# Altium footprint library Pin Grid Array Package (PGA).PcbLib: 60 footprints (part 3 of 6)
Each footprint in its own frame and in the unit in brackets; x right, y up, seen from the top. Pads: shape width x height; smd on the part's side, far side on the other; paste and mask are expansions set on the pad; w line width, h text height; cw(c..) or ccw(c..) is an arc to the next point about the centre after c.
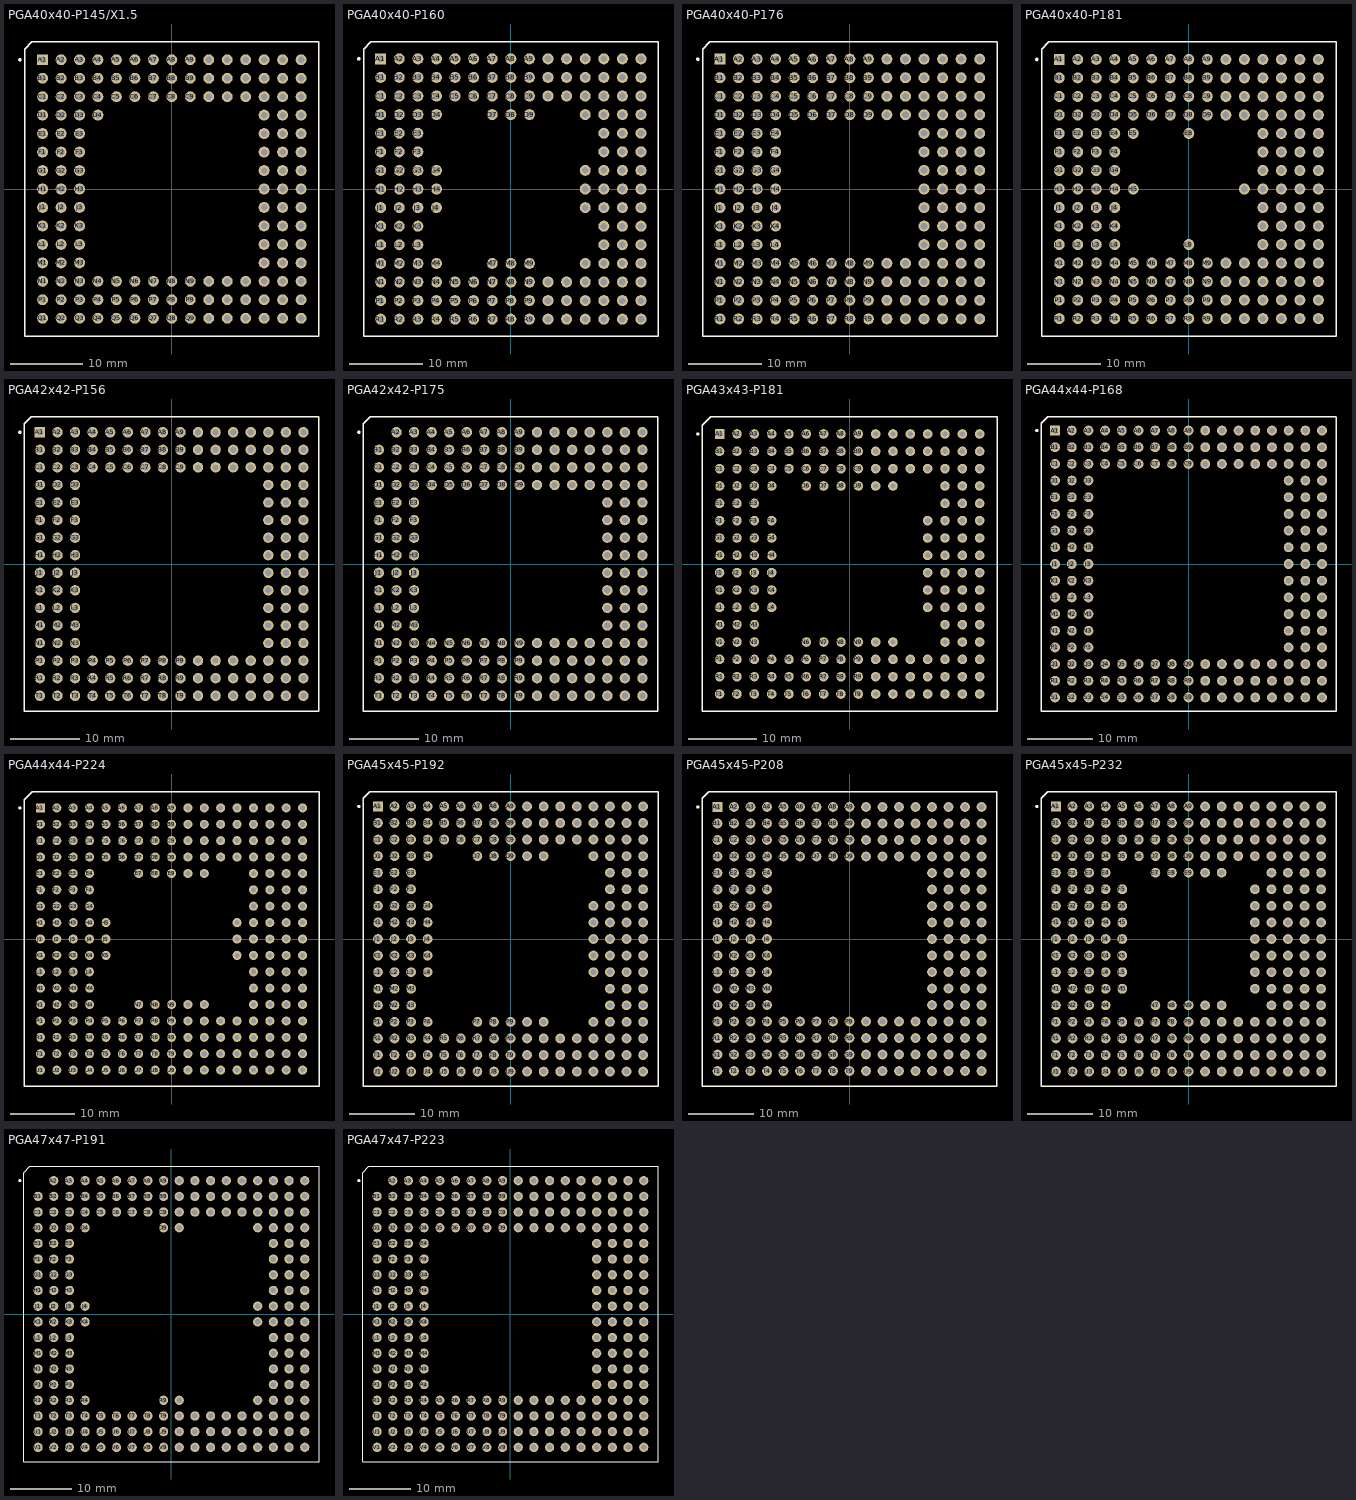
[diagram p2: the footprints below, top view; thin cyan lines are the x and y axes]

## PGA40x40-P145/X1.5 [mm] "PGA; 145 Leads; Body 39.9 x 39.9 mm; Plain Grid"
height 4.95
pads (145):
  rect 1.5x1.5 hole 0.9: A1(-17.78,17.78)
  round 1.5 hole 0.9: A2(-15.24,17.78) A3(-12.7,17.78) A4(-10.16,17.78) A5(-7.62,17.78) A6(-5.08,17.78) A7(-2.54,17.78) A8(0,17.78) A9(2.54,17.78) A10(5.08,17.78) A11(7.62,17.78) A12(10.16,17.78) A13(12.7,17.78) A14(15.24,17.78) A15(17.78,17.78) B1(-17.78,15.24) B2(-15.24,15.24) B3(-12.7,15.24) B4(-10.16,15.24) B5(-7.62,15.24) B6(-5.08,15.24) B7(-2.54,15.24) B8(0,15.24) B9(2.54,15.24) B10(5.08,15.24) B11(7.62,15.24) B12(10.16,15.24) B13(12.7,15.24) B14(15.24,15.24) B15(17.78,15.24) C1(-17.78,12.7) C2(-15.24,12.7) C3(-12.7,12.7) C4(-10.16,12.7) C5(-7.62,12.7) C6(-5.08,12.7) C7(-2.54,12.7) C8(0,12.7) C9(2.54,12.7) C10(5.08,12.7) C11(7.62,12.7) C12(10.16,12.7) C13(12.7,12.7) C14(15.24,12.7) C15(17.78,12.7) D1(-17.78,10.16) D2(-15.24,10.16) D3(-12.7,10.16) D4(-10.16,10.16) D13(12.7,10.16) D14(15.24,10.16) D15(17.78,10.16) E1(-17.78,7.62) E2(-15.24,7.62) E3(-12.7,7.62) E13(12.7,7.62) E14(15.24,7.62) E15(17.78,7.62) F1(-17.78,5.08) F2(-15.24,5.08) F3(-12.7,5.08) F13(12.7,5.08) F14(15.24,5.08) F15(17.78,5.08) G1(-17.78,2.54) G2(-15.24,2.54) G3(-12.7,2.54) G13(12.7,2.54) G14(15.24,2.54) G15(17.78,2.54) H1(-17.78,0) H2(-15.24,0) H3(-12.7,0) H13(12.7,0) H14(15.24,0) H15(17.78,0) J1(-17.78,-2.54) J2(-15.24,-2.54) J3(-12.7,-2.54) J13(12.7,-2.54) J14(15.24,-2.54) J15(17.78,-2.54) K1(-17.78,-5.08) K2(-15.24,-5.08) K3(-12.7,-5.08) K13(12.7,-5.08) K14(15.24,-5.08) K15(17.78,-5.08) L1(-17.78,-7.62) L2(-15.24,-7.62) L3(-12.7,-7.62) L13(12.7,-7.62) L14(15.24,-7.62) L15(17.78,-7.62) M1(-17.78,-10.16) M2(-15.24,-10.16) M3(-12.7,-10.16) M13(12.7,-10.16) M14(15.24,-10.16) M15(17.78,-10.16) N1(-17.78,-12.7) N2(-15.24,-12.7) N3(-12.7,-12.7) N4(-10.16,-12.7) N5(-7.62,-12.7) N6(-5.08,-12.7) N7(-2.54,-12.7) N8(0,-12.7) N9(2.54,-12.7) N10(5.08,-12.7) N11(7.62,-12.7) N12(10.16,-12.7) N13(12.7,-12.7) N14(15.24,-12.7) N15(17.78,-12.7) P1(-17.78,-15.24) P2(-15.24,-15.24) P3(-12.7,-15.24) P4(-10.16,-15.24) P5(-7.62,-15.24) P6(-5.08,-15.24) P7(-2.54,-15.24) P8(0,-15.24) P9(2.54,-15.24) P10(5.08,-15.24) P11(7.62,-15.24) P12(10.16,-15.24) P13(12.7,-15.24) P14(15.24,-15.24) P15(17.78,-15.24) Q1(-17.78,-17.78) Q2(-15.24,-17.78) Q3(-12.7,-17.78) Q4(-10.16,-17.78) Q5(-7.62,-17.78) Q6(-5.08,-17.78) Q7(-2.54,-17.78) Q8(0,-17.78) Q9(2.54,-17.78) Q10(5.08,-17.78) Q11(7.62,-17.78) Q12(10.16,-17.78) Q13(12.7,-17.78) Q14(15.24,-17.78) Q15(17.78,-17.78)
Top Overlay:
  circle w0.25: c-20.9,17.78 r0.125
  lines w0.2: -20.25,-20.25 -20.25,19.25 -19.25,20.25 20.25,20.25 20.25,-20.25 -20.25,-20.25

## PGA40x40-P160 [mm] "PGA; 160 Leads; Body 40 x 40 mm; Plain Grid"
height 5.21
pads (160):
  rect 1.5x1.5 hole 0.9: A1(-17.78,17.78)
  round 1.5 hole 0.9: A2(-15.24,17.78) A3(-12.7,17.78) A4(-10.16,17.78) A5(-7.62,17.78) A6(-5.08,17.78) A7(-2.54,17.78) A8(0,17.78) A9(2.54,17.78) A10(5.08,17.78) A11(7.62,17.78) A12(10.16,17.78) A13(12.7,17.78) A14(15.24,17.78) A15(17.78,17.78) B1(-17.78,15.24) B2(-15.24,15.24) B3(-12.7,15.24) B4(-10.16,15.24) B5(-7.62,15.24) B6(-5.08,15.24) B7(-2.54,15.24) B8(0,15.24) B9(2.54,15.24) B10(5.08,15.24) B11(7.62,15.24) B12(10.16,15.24) B13(12.7,15.24) B14(15.24,15.24) B15(17.78,15.24) C1(-17.78,12.7) C2(-15.24,12.7) C3(-12.7,12.7) C4(-10.16,12.7) C5(-7.62,12.7) C6(-5.08,12.7) C7(-2.54,12.7) C8(0,12.7) C9(2.54,12.7) C10(5.08,12.7) C11(7.62,12.7) C12(10.16,12.7) C13(12.7,12.7) C14(15.24,12.7) C15(17.78,12.7) D1(-17.78,10.16) D2(-15.24,10.16) D3(-12.7,10.16) D4(-10.16,10.16) D7(-2.54,10.16) D8(0,10.16) D9(2.54,10.16) D12(10.16,10.16) D13(12.7,10.16) D14(15.24,10.16) D15(17.78,10.16) E1(-17.78,7.62) E2(-15.24,7.62) E3(-12.7,7.62) E13(12.7,7.62) E14(15.24,7.62) E15(17.78,7.62) F1(-17.78,5.08) F2(-15.24,5.08) F3(-12.7,5.08) F13(12.7,5.08) F14(15.24,5.08) F15(17.78,5.08) G1(-17.78,2.54) G2(-15.24,2.54) G3(-12.7,2.54) G4(-10.16,2.54) G12(10.16,2.54) G13(12.7,2.54) G14(15.24,2.54) G15(17.78,2.54) H1(-17.78,0) H2(-15.24,0) H3(-12.7,0) H4(-10.16,0) H12(10.16,0) H13(12.7,0) H14(15.24,0) H15(17.78,0) J1(-17.78,-2.54) J2(-15.24,-2.54) J3(-12.7,-2.54) J4(-10.16,-2.54) J12(10.16,-2.54) J13(12.7,-2.54) J14(15.24,-2.54) J15(17.78,-2.54) K1(-17.78,-5.08) K2(-15.24,-5.08) K3(-12.7,-5.08) K13(12.7,-5.08) K14(15.24,-5.08) K15(17.78,-5.08) L1(-17.78,-7.62) L2(-15.24,-7.62) L3(-12.7,-7.62) L13(12.7,-7.62) L14(15.24,-7.62) L15(17.78,-7.62) M1(-17.78,-10.16) M2(-15.24,-10.16) M3(-12.7,-10.16) M4(-10.16,-10.16) M7(-2.54,-10.16) M8(0,-10.16) M9(2.54,-10.16) M12(10.16,-10.16) M13(12.7,-10.16) M14(15.24,-10.16) M15(17.78,-10.16) N1(-17.78,-12.7) N2(-15.24,-12.7) N3(-12.7,-12.7) N4(-10.16,-12.7) N5(-7.62,-12.7) N6(-5.08,-12.7) N7(-2.54,-12.7) N8(0,-12.7) N9(2.54,-12.7) N10(5.08,-12.7) N11(7.62,-12.7) N12(10.16,-12.7) N13(12.7,-12.7) N14(15.24,-12.7) N15(17.78,-12.7) P1(-17.78,-15.24) P2(-15.24,-15.24) P3(-12.7,-15.24) P4(-10.16,-15.24) P5(-7.62,-15.24) P6(-5.08,-15.24) P7(-2.54,-15.24) P8(0,-15.24) P9(2.54,-15.24) P10(5.08,-15.24) P11(7.62,-15.24) P12(10.16,-15.24) P13(12.7,-15.24) P14(15.24,-15.24) P15(17.78,-15.24) R1(-17.78,-17.78) R2(-15.24,-17.78) R3(-12.7,-17.78) R4(-10.16,-17.78) R5(-7.62,-17.78) R6(-5.08,-17.78) R7(-2.54,-17.78) R8(0,-17.78) R9(2.54,-17.78) R10(5.08,-17.78) R11(7.62,-17.78) R12(10.16,-17.78) R13(12.7,-17.78) R14(15.24,-17.78) R15(17.78,-17.78)
Top Overlay:
  circle w0.25: c-20.75,17.78 r0.125
  lines w0.2: -20.1,-20.1 20.1,-20.1 20.1,20.1 -19.1,20.1 -20.1,19.1 -20.1,-20.1

## PGA40x40-P176 [mm] "175-Pin Ceramic Pin Grid Array (CPGA)"
height 4.37
pads (176):
  rect 1.5x1.5 hole 0.9: A1(-17.78,17.78)
  round 1.5 hole 0.9: A2(-15.24,17.78) A3(-12.7,17.78) A4(-10.16,17.78) A5(-7.62,17.78) A6(-5.08,17.78) A7(-2.54,17.78) A8(0,17.78) A9(2.54,17.78) A10(5.08,17.78) A11(7.62,17.78) A12(10.16,17.78) A13(12.7,17.78) A14(15.24,17.78) A15(17.78,17.78) B1(-17.78,15.24) B2(-15.24,15.24) B3(-12.7,15.24) B4(-10.16,15.24) B5(-7.62,15.24) B6(-5.08,15.24) B7(-2.54,15.24) B8(0,15.24) B9(2.54,15.24) B10(5.08,15.24) B11(7.62,15.24) B12(10.16,15.24) B13(12.7,15.24) B14(15.24,15.24) B15(17.78,15.24) C1(-17.78,12.7) C2(-15.24,12.7) C3(-12.7,12.7) C4(-10.16,12.7) C5(-7.62,12.7) C6(-5.08,12.7) C7(-2.54,12.7) C8(0,12.7) C9(2.54,12.7) C10(5.08,12.7) C11(7.62,12.7) C12(10.16,12.7) C13(12.7,12.7) C14(15.24,12.7) C15(17.78,12.7) D1(-17.78,10.16) D2(-15.24,10.16) D3(-12.7,10.16) D4(-10.16,10.16) D5(-7.62,10.16) D6(-5.08,10.16) D7(-2.54,10.16) D8(0,10.16) D9(2.54,10.16) D10(5.08,10.16) D11(7.62,10.16) D12(10.16,10.16) D13(12.7,10.16) D14(15.24,10.16) D15(17.78,10.16) E1(-17.78,7.62) E2(-15.24,7.62) E3(-12.7,7.62) E4(-10.16,7.62) E12(10.16,7.62) E13(12.7,7.62) E14(15.24,7.62) E15(17.78,7.62) F1(-17.78,5.08) F2(-15.24,5.08) F3(-12.7,5.08) F4(-10.16,5.08) F12(10.16,5.08) F13(12.7,5.08) F14(15.24,5.08) F15(17.78,5.08) G1(-17.78,2.54) G2(-15.24,2.54) G3(-12.7,2.54) G4(-10.16,2.54) G12(10.16,2.54) G13(12.7,2.54) G14(15.24,2.54) G15(17.78,2.54) H1(-17.78,0) H2(-15.24,0) H3(-12.7,0) H4(-10.16,0) H12(10.16,0) H13(12.7,0) H14(15.24,0) H15(17.78,0) J1(-17.78,-2.54) J2(-15.24,-2.54) J3(-12.7,-2.54) J4(-10.16,-2.54) J12(10.16,-2.54) J13(12.7,-2.54) J14(15.24,-2.54) J15(17.78,-2.54) K1(-17.78,-5.08) K2(-15.24,-5.08) K3(-12.7,-5.08) K4(-10.16,-5.08) K12(10.16,-5.08) K13(12.7,-5.08) K14(15.24,-5.08) K15(17.78,-5.08) L1(-17.78,-7.62) L2(-15.24,-7.62) L3(-12.7,-7.62) L4(-10.16,-7.62) L12(10.16,-7.62) L13(12.7,-7.62) L14(15.24,-7.62) L15(17.78,-7.62) M1(-17.78,-10.16) M2(-15.24,-10.16) M3(-12.7,-10.16) M4(-10.16,-10.16) M5(-7.62,-10.16) M6(-5.08,-10.16) M7(-2.54,-10.16) M8(0,-10.16) M9(2.54,-10.16) M10(5.08,-10.16) M11(7.62,-10.16) M12(10.16,-10.16) M13(12.7,-10.16) M14(15.24,-10.16) M15(17.78,-10.16) N1(-17.78,-12.7) N2(-15.24,-12.7) N3(-12.7,-12.7) N4(-10.16,-12.7) N5(-7.62,-12.7) N6(-5.08,-12.7) N7(-2.54,-12.7) N8(0,-12.7) N9(2.54,-12.7) N10(5.08,-12.7) N11(7.62,-12.7) N12(10.16,-12.7) N13(12.7,-12.7) N14(15.24,-12.7) N15(17.78,-12.7) P1(-17.78,-15.24) P2(-15.24,-15.24) P3(-12.7,-15.24) P4(-10.16,-15.24) P5(-7.62,-15.24) P6(-5.08,-15.24) P7(-2.54,-15.24) P8(0,-15.24) P9(2.54,-15.24) P10(5.08,-15.24) P11(7.62,-15.24) P12(10.16,-15.24) P13(12.7,-15.24) P14(15.24,-15.24) P15(17.78,-15.24) R1(-17.78,-17.78) R2(-15.24,-17.78) R3(-12.7,-17.78) R4(-10.16,-17.78) R5(-7.62,-17.78) R6(-5.08,-17.78) R7(-2.54,-17.78) R8(0,-17.78) R9(2.54,-17.78) R10(5.08,-17.78) R11(7.62,-17.78) R12(10.16,-17.78) R13(12.7,-17.78) R14(15.24,-17.78) R15(17.78,-17.78)
Top Overlay:
  circle w0.25: c-20.8,17.78 r0.125
  lines w0.2: -20.15,-20.15 20.15,-20.15 20.15,20.15 -19.15,20.15 -20.15,19.15 -20.15,-20.15

## PGA40x40-P181 [mm] "PGA; 181 Leads; Body 39 x 39 mm; Plain Grid"
height 6.22
pads (181):
  rect 1.5x1.5 hole 0.9: A1(-17.78,17.78)
  round 1.5 hole 0.9: A2(-15.24,17.78) A3(-12.7,17.78) A4(-10.16,17.78) A5(-7.62,17.78) A6(-5.08,17.78) A7(-2.54,17.78) A8(0,17.78) A9(2.54,17.78) A10(5.08,17.78) A11(7.62,17.78) A12(10.16,17.78) A13(12.7,17.78) A14(15.24,17.78) A15(17.78,17.78) B1(-17.78,15.24) B2(-15.24,15.24) B3(-12.7,15.24) B4(-10.16,15.24) B5(-7.62,15.24) B6(-5.08,15.24) B7(-2.54,15.24) B8(0,15.24) B9(2.54,15.24) B10(5.08,15.24) B11(7.62,15.24) B12(10.16,15.24) B13(12.7,15.24) B14(15.24,15.24) B15(17.78,15.24) C1(-17.78,12.7) C2(-15.24,12.7) C3(-12.7,12.7) C4(-10.16,12.7) C5(-7.62,12.7) C6(-5.08,12.7) C7(-2.54,12.7) C8(0,12.7) C9(2.54,12.7) C10(5.08,12.7) C11(7.62,12.7) C12(10.16,12.7) C13(12.7,12.7) C14(15.24,12.7) C15(17.78,12.7) D1(-17.78,10.16) D2(-15.24,10.16) D3(-12.7,10.16) D4(-10.16,10.16) D5(-7.62,10.16) D6(-5.08,10.16) D7(-2.54,10.16) D8(0,10.16) D9(2.54,10.16) D10(5.08,10.16) D11(7.62,10.16) D12(10.16,10.16) D13(12.7,10.16) D14(15.24,10.16) D15(17.78,10.16) E1(-17.78,7.62) E2(-15.24,7.62) E3(-12.7,7.62) E4(-10.16,7.62) E5(-7.62,7.62) E8(0,7.62) E12(10.16,7.62) E13(12.7,7.62) E14(15.24,7.62) E15(17.78,7.62) F1(-17.78,5.08) F2(-15.24,5.08) F3(-12.7,5.08) F4(-10.16,5.08) F12(10.16,5.08) F13(12.7,5.08) F14(15.24,5.08) F15(17.78,5.08) G1(-17.78,2.54) G2(-15.24,2.54) G3(-12.7,2.54) G4(-10.16,2.54) G12(10.16,2.54) G13(12.7,2.54) G14(15.24,2.54) G15(17.78,2.54) H1(-17.78,0) H2(-15.24,0) H3(-12.7,0) H4(-10.16,0) H5(-7.62,0) H11(7.62,0) H12(10.16,0) H13(12.7,0) H14(15.24,0) H15(17.78,0) J1(-17.78,-2.54) J2(-15.24,-2.54) J3(-12.7,-2.54) J4(-10.16,-2.54) J12(10.16,-2.54) J13(12.7,-2.54) J14(15.24,-2.54) J15(17.78,-2.54) K1(-17.78,-5.08) K2(-15.24,-5.08) K3(-12.7,-5.08) K4(-10.16,-5.08) K12(10.16,-5.08) K13(12.7,-5.08) K14(15.24,-5.08) K15(17.78,-5.08) L1(-17.78,-7.62) L2(-15.24,-7.62) L3(-12.7,-7.62) L4(-10.16,-7.62) L8(0,-7.62) L12(10.16,-7.62) L13(12.7,-7.62) L14(15.24,-7.62) L15(17.78,-7.62) M1(-17.78,-10.16) M2(-15.24,-10.16) M3(-12.7,-10.16) M4(-10.16,-10.16) M5(-7.62,-10.16) M6(-5.08,-10.16) M7(-2.54,-10.16) M8(0,-10.16) M9(2.54,-10.16) M10(5.08,-10.16) M11(7.62,-10.16) M12(10.16,-10.16) M13(12.7,-10.16) M14(15.24,-10.16) M15(17.78,-10.16) N1(-17.78,-12.7) N2(-15.24,-12.7) N3(-12.7,-12.7) N4(-10.16,-12.7) N5(-7.62,-12.7) N6(-5.08,-12.7) N7(-2.54,-12.7) N8(0,-12.7) N9(2.54,-12.7) N10(5.08,-12.7) N11(7.62,-12.7) N12(10.16,-12.7) N13(12.7,-12.7) N14(15.24,-12.7) N15(17.78,-12.7) P1(-17.78,-15.24) P2(-15.24,-15.24) P3(-12.7,-15.24) P4(-10.16,-15.24) P5(-7.62,-15.24) P6(-5.08,-15.24) P7(-2.54,-15.24) P8(0,-15.24) P9(2.54,-15.24) P10(5.08,-15.24) P11(7.62,-15.24) P12(10.16,-15.24) P13(12.7,-15.24) P14(15.24,-15.24) P15(17.78,-15.24) R1(-17.78,-17.78) R2(-15.24,-17.78) R3(-12.7,-17.78) R4(-10.16,-17.78) R5(-7.62,-17.78) R6(-5.08,-17.78) R7(-2.54,-17.78) R8(0,-17.78) R9(2.54,-17.78) R10(5.08,-17.78) R11(7.62,-17.78) R12(10.16,-17.78) R13(12.7,-17.78) R14(15.24,-17.78) R15(17.78,-17.78)
Top Overlay:
  circle w0.25: c-20.85,17.78 r0.125
  lines w0.2: -20.2,-20.2 -20.2,19.2 -19.2,20.2 20.2,20.2 20.2,-20.2 -20.2,-20.2

## PGA42x42-P156 [mm] "156-Pin Ceramic Pin Grid Array (PG156)"
height 3.94
pads (156):
  rect 1.5x1.5 hole 0.9: A1(-19.05,19.05)
  round 1.5 hole 0.9: A2(-16.51,19.05) A3(-13.97,19.05) A4(-11.43,19.05) A5(-8.89,19.05) A6(-6.35,19.05) A7(-3.81,19.05) A8(-1.27,19.05) A9(1.27,19.05) A10(3.81,19.05) A11(6.35,19.05) A12(8.89,19.05) A13(11.43,19.05) A14(13.97,19.05) A15(16.51,19.05) A16(19.05,19.05) B1(-19.05,16.51) B2(-16.51,16.51) B3(-13.97,16.51) B4(-11.43,16.51) B5(-8.89,16.51) B6(-6.35,16.51) B7(-3.81,16.51) B8(-1.27,16.51) B9(1.27,16.51) B10(3.81,16.51) B11(6.35,16.51) B12(8.89,16.51) B13(11.43,16.51) B14(13.97,16.51) B15(16.51,16.51) B16(19.05,16.51) C1(-19.05,13.97) C2(-16.51,13.97) C3(-13.97,13.97) C4(-11.43,13.97) C5(-8.89,13.97) C6(-6.35,13.97) C7(-3.81,13.97) C8(-1.27,13.97) C9(1.27,13.97) C10(3.81,13.97) C11(6.35,13.97) C12(8.89,13.97) C13(11.43,13.97) C14(13.97,13.97) C15(16.51,13.97) C16(19.05,13.97) D1(-19.05,11.43) D2(-16.51,11.43) D3(-13.97,11.43) D14(13.97,11.43) D15(16.51,11.43) D16(19.05,11.43) E1(-19.05,8.89) E2(-16.51,8.89) E3(-13.97,8.89) E14(13.97,8.89) E15(16.51,8.89) E16(19.05,8.89) F1(-19.05,6.35) F2(-16.51,6.35) F3(-13.97,6.35) F14(13.97,6.35) F15(16.51,6.35) F16(19.05,6.35) G1(-19.05,3.81) G2(-16.51,3.81) G3(-13.97,3.81) G14(13.97,3.81) G15(16.51,3.81) G16(19.05,3.81) H1(-19.05,1.27) H2(-16.51,1.27) H3(-13.97,1.27) H14(13.97,1.27) H15(16.51,1.27) H16(19.05,1.27) J1(-19.05,-1.27) J2(-16.51,-1.27) J3(-13.97,-1.27) J14(13.97,-1.27) J15(16.51,-1.27) J16(19.05,-1.27) K1(-19.05,-3.81) K2(-16.51,-3.81) K3(-13.97,-3.81) K14(13.97,-3.81) K15(16.51,-3.81) K16(19.05,-3.81) L1(-19.05,-6.35) L2(-16.51,-6.35) L3(-13.97,-6.35) L14(13.97,-6.35) L15(16.51,-6.35) L16(19.05,-6.35) M1(-19.05,-8.89) M2(-16.51,-8.89) M3(-13.97,-8.89) M14(13.97,-8.89) M15(16.51,-8.89) M16(19.05,-8.89) N1(-19.05,-11.43) N2(-16.51,-11.43) N3(-13.97,-11.43) N14(13.97,-11.43) N15(16.51,-11.43) N16(19.05,-11.43) P1(-19.05,-13.97) P2(-16.51,-13.97) P3(-13.97,-13.97) P4(-11.43,-13.97) P5(-8.89,-13.97) P6(-6.35,-13.97) P7(-3.81,-13.97) P8(-1.27,-13.97) P9(1.27,-13.97) P10(3.81,-13.97) P11(6.35,-13.97) P12(8.89,-13.97) P13(11.43,-13.97) P14(13.97,-13.97) P15(16.51,-13.97) P16(19.05,-13.97) R1(-19.05,-16.51) R2(-16.51,-16.51) R3(-13.97,-16.51) R4(-11.43,-16.51) R5(-8.89,-16.51) R6(-6.35,-16.51) R7(-3.81,-16.51) R8(-1.27,-16.51) R9(1.27,-16.51) R10(3.81,-16.51) R11(6.35,-16.51) R12(8.89,-16.51) R13(11.43,-16.51) R14(13.97,-16.51) R15(16.51,-16.51) R16(19.05,-16.51) T1(-19.05,-19.05) T2(-16.51,-19.05) T3(-13.97,-19.05) T4(-11.43,-19.05) T5(-8.89,-19.05) T6(-6.35,-19.05) T7(-3.81,-19.05) T8(-1.27,-19.05) T9(1.27,-19.05) T10(3.81,-19.05) T11(6.35,-19.05) T12(8.89,-19.05) T13(11.43,-19.05) T14(13.97,-19.05) T15(16.51,-19.05) T16(19.05,-19.05)
Top Overlay:
  circle w0.25: c-21.95,19.05 r0.125
  lines w0.2: -21.3,-21.3 -21.3,20.3 -20.3,21.3 21.3,21.3 21.3,-21.3 -21.3,-21.3

## PGA42x42-P175 [mm] "175-Pin Ceramic PGA (PG175)"
height 5.21
pads (175):
  round 1.5 hole 0.9: A2(-16.51,19.05) A3(-13.97,19.05) A4(-11.43,19.05) A5(-8.89,19.05) A6(-6.35,19.05) A7(-3.81,19.05) A8(-1.27,19.05) A9(1.27,19.05) A10(3.81,19.05) A11(6.35,19.05) A12(8.89,19.05) A13(11.43,19.05) A14(13.97,19.05) A15(16.51,19.05) A16(19.05,19.05) B1(-19.05,16.51) B2(-16.51,16.51) B3(-13.97,16.51) B4(-11.43,16.51) B5(-8.89,16.51) B6(-6.35,16.51) B7(-3.81,16.51) B8(-1.27,16.51) B9(1.27,16.51) B10(3.81,16.51) B11(6.35,16.51) B12(8.89,16.51) B13(11.43,16.51) B14(13.97,16.51) B15(16.51,16.51) B16(19.05,16.51) C1(-19.05,13.97) C2(-16.51,13.97) C3(-13.97,13.97) C4(-11.43,13.97) C5(-8.89,13.97) C6(-6.35,13.97) C7(-3.81,13.97) C8(-1.27,13.97) C9(1.27,13.97) C10(3.81,13.97) C11(6.35,13.97) C12(8.89,13.97) C13(11.43,13.97) C14(13.97,13.97) C15(16.51,13.97) C16(19.05,13.97) D1(-19.05,11.43) D2(-16.51,11.43) D3(-13.97,11.43) D4(-11.43,11.43) D5(-8.89,11.43) D6(-6.35,11.43) D7(-3.81,11.43) D8(-1.27,11.43) D9(1.27,11.43) D10(3.81,11.43) D11(6.35,11.43) D12(8.89,11.43) D13(11.43,11.43) D14(13.97,11.43) D15(16.51,11.43) D16(19.05,11.43) E1(-19.05,8.89) E2(-16.51,8.89) E3(-13.97,8.89) E14(13.97,8.89) E15(16.51,8.89) E16(19.05,8.89) F1(-19.05,6.35) F2(-16.51,6.35) F3(-13.97,6.35) F14(13.97,6.35) F15(16.51,6.35) F16(19.05,6.35) G1(-19.05,3.81) G2(-16.51,3.81) G3(-13.97,3.81) G14(13.97,3.81) G15(16.51,3.81) G16(19.05,3.81) H1(-19.05,1.27) H2(-16.51,1.27) H3(-13.97,1.27) H14(13.97,1.27) H15(16.51,1.27) H16(19.05,1.27) J1(-19.05,-1.27) J2(-16.51,-1.27) J3(-13.97,-1.27) J14(13.97,-1.27) J15(16.51,-1.27) J16(19.05,-1.27) K1(-19.05,-3.81) K2(-16.51,-3.81) K3(-13.97,-3.81) K14(13.97,-3.81) K15(16.51,-3.81) K16(19.05,-3.81) L1(-19.05,-6.35) L2(-16.51,-6.35) L3(-13.97,-6.35) L14(13.97,-6.35) L15(16.51,-6.35) L16(19.05,-6.35) M1(-19.05,-8.89) M2(-16.51,-8.89) M3(-13.97,-8.89) M14(13.97,-8.89) M15(16.51,-8.89) M16(19.05,-8.89) N1(-19.05,-11.43) N2(-16.51,-11.43) N3(-13.97,-11.43) N4(-11.43,-11.43) N5(-8.89,-11.43) N6(-6.35,-11.43) N7(-3.81,-11.43) N8(-1.27,-11.43) N9(1.27,-11.43) N10(3.81,-11.43) N11(6.35,-11.43) N12(8.89,-11.43) N13(11.43,-11.43) N14(13.97,-11.43) N15(16.51,-11.43) N16(19.05,-11.43) P1(-19.05,-13.97) P2(-16.51,-13.97) P3(-13.97,-13.97) P4(-11.43,-13.97) P5(-8.89,-13.97) P6(-6.35,-13.97) P7(-3.81,-13.97) P8(-1.27,-13.97) P9(1.27,-13.97) P10(3.81,-13.97) P11(6.35,-13.97) P12(8.89,-13.97) P13(11.43,-13.97) P14(13.97,-13.97) P15(16.51,-13.97) P16(19.05,-13.97) R1(-19.05,-16.51) R2(-16.51,-16.51) R3(-13.97,-16.51) R4(-11.43,-16.51) R5(-8.89,-16.51) R6(-6.35,-16.51) R7(-3.81,-16.51) R8(-1.27,-16.51) R9(1.27,-16.51) R10(3.81,-16.51) R11(6.35,-16.51) R12(8.89,-16.51) R13(11.43,-16.51) R14(13.97,-16.51) R15(16.51,-16.51) R16(19.05,-16.51) T1(-19.05,-19.05) T2(-16.51,-19.05) T3(-13.97,-19.05) T4(-11.43,-19.05) T5(-8.89,-19.05) T6(-6.35,-19.05) T7(-3.81,-19.05) T8(-1.27,-19.05) T9(1.27,-19.05) T10(3.81,-19.05) T11(6.35,-19.05) T12(8.89,-19.05) T13(11.43,-19.05) T14(13.97,-19.05) T15(16.51,-19.05) T16(19.05,-19.05)
Top Overlay:
  circle w0.25: c-21.95,19.05 r0.125
  lines w0.2: -21.3,-21.3 21.3,-21.3 21.3,21.3 -20.3,21.3 -21.3,20.3 -21.3,-21.3

## PGA43x43-P181 [mm] "PGA; 181 Leads; Body 42 x 42 mm; Plain Grid"
height 3.84
pads (181):
  rect 1.4x1.4 hole 0.8: A1(-19.05,19.05)
  round 1.4 hole 0.8: A2(-16.51,19.05) A3(-13.97,19.05) A4(-11.43,19.05) A5(-8.89,19.05) A6(-6.35,19.05) A7(-3.81,19.05) A8(-1.27,19.05) A9(1.27,19.05) A10(3.81,19.05) A11(6.35,19.05) A12(8.89,19.05) A13(11.43,19.05) A14(13.97,19.05) A15(16.51,19.05) A16(19.05,19.05) B1(-19.05,16.51) B2(-16.51,16.51) B3(-13.97,16.51) B4(-11.43,16.51) B5(-8.89,16.51) B6(-6.35,16.51) B7(-3.81,16.51) B8(-1.27,16.51) B9(1.27,16.51) B10(3.81,16.51) B11(6.35,16.51) B12(8.89,16.51) B13(11.43,16.51) B14(13.97,16.51) B15(16.51,16.51) B16(19.05,16.51) C1(-19.05,13.97) C2(-16.51,13.97) C3(-13.97,13.97) C4(-11.43,13.97) C5(-8.89,13.97) C6(-6.35,13.97) C7(-3.81,13.97) C8(-1.27,13.97) C9(1.27,13.97) C10(3.81,13.97) C11(6.35,13.97) C12(8.89,13.97) C13(11.43,13.97) C14(13.97,13.97) C15(16.51,13.97) C16(19.05,13.97) D1(-19.05,11.43) D2(-16.51,11.43) D3(-13.97,11.43) D4(-11.43,11.43) D6(-6.35,11.43) D7(-3.81,11.43) D8(-1.27,11.43) D9(1.27,11.43) D10(3.81,11.43) D11(6.35,11.43) D14(13.97,11.43) D15(16.51,11.43) D16(19.05,11.43) E1(-19.05,8.89) E2(-16.51,8.89) E3(-13.97,8.89) E14(13.97,8.89) E15(16.51,8.89) E16(19.05,8.89) F1(-19.05,6.35) F2(-16.51,6.35) F3(-13.97,6.35) F4(-11.43,6.35) F13(11.43,6.35) F14(13.97,6.35) F15(16.51,6.35) F16(19.05,6.35) G1(-19.05,3.81) G2(-16.51,3.81) G3(-13.97,3.81) G4(-11.43,3.81) G13(11.43,3.81) G14(13.97,3.81) G15(16.51,3.81) G16(19.05,3.81) H1(-19.05,1.27) H2(-16.51,1.27) H3(-13.97,1.27) H4(-11.43,1.27) H13(11.43,1.27) H14(13.97,1.27) H15(16.51,1.27) H16(19.05,1.27) J1(-19.05,-1.27) J2(-16.51,-1.27) J3(-13.97,-1.27) J4(-11.43,-1.27) J13(11.43,-1.27) J14(13.97,-1.27) J15(16.51,-1.27) J16(19.05,-1.27) K1(-19.05,-3.81) K2(-16.51,-3.81) K3(-13.97,-3.81) K4(-11.43,-3.81) K13(11.43,-3.81) K14(13.97,-3.81) K15(16.51,-3.81) K16(19.05,-3.81) L1(-19.05,-6.35) L2(-16.51,-6.35) L3(-13.97,-6.35) L4(-11.43,-6.35) L13(11.43,-6.35) L14(13.97,-6.35) L15(16.51,-6.35) L16(19.05,-6.35) M1(-19.05,-8.89) M2(-16.51,-8.89) M3(-13.97,-8.89) M14(13.97,-8.89) M15(16.51,-8.89) M16(19.05,-8.89) N1(-19.05,-11.43) N2(-16.51,-11.43) N3(-13.97,-11.43) N6(-6.35,-11.43) N7(-3.81,-11.43) N8(-1.27,-11.43) N9(1.27,-11.43) N10(3.81,-11.43) N11(6.35,-11.43) N14(13.97,-11.43) N15(16.51,-11.43) N16(19.05,-11.43) P1(-19.05,-13.97) P2(-16.51,-13.97) P3(-13.97,-13.97) P4(-11.43,-13.97) P5(-8.89,-13.97) P6(-6.35,-13.97) P7(-3.81,-13.97) P8(-1.27,-13.97) P9(1.27,-13.97) P10(3.81,-13.97) P11(6.35,-13.97) P12(8.89,-13.97) P13(11.43,-13.97) P14(13.97,-13.97) P15(16.51,-13.97) P16(19.05,-13.97) R1(-19.05,-16.51) R2(-16.51,-16.51) R3(-13.97,-16.51) R4(-11.43,-16.51) R5(-8.89,-16.51) R6(-6.35,-16.51) R7(-3.81,-16.51) R8(-1.27,-16.51) R9(1.27,-16.51) R10(3.81,-16.51) R11(6.35,-16.51) R12(8.89,-16.51) R13(11.43,-16.51) R14(13.97,-16.51) R15(16.51,-16.51) R16(19.05,-16.51) T1(-19.05,-19.05) T2(-16.51,-19.05) T3(-13.97,-19.05) T4(-11.43,-19.05) T5(-8.89,-19.05) T6(-6.35,-19.05) T7(-3.81,-19.05) T8(-1.27,-19.05) T9(1.27,-19.05) T10(3.81,-19.05) T11(6.35,-19.05) T12(8.89,-19.05) T13(11.43,-19.05) T14(13.97,-19.05) T15(16.51,-19.05) T16(19.05,-19.05)
Top Overlay:
  circle w0.25: c-22.24,19.05 r0.125
  lines w0.2: -21.59,-21.59 21.59,-21.59 21.59,21.59 -20.32,21.59 -21.59,20.32 -21.59,-21.59

## PGA44x44-P168 [mm] "PGA; 168 Leads; Body 44.5 x 44.5 mm; Plain Grid"
height 4.72
pads (168):
  rect 1.5x1.5 hole 0.9: A1(-20.32,20.32)
  round 1.5 hole 0.9: A2(-17.78,20.32) A3(-15.24,20.32) A4(-12.7,20.32) A5(-10.16,20.32) A6(-7.62,20.32) A7(-5.08,20.32) A8(-2.54,20.32) A9(0,20.32) A10(2.54,20.32) A11(5.08,20.32) A12(7.62,20.32) A13(10.16,20.32) A14(12.7,20.32) A15(15.24,20.32) A16(17.78,20.32) A17(20.32,20.32) B1(-20.32,17.78) B2(-17.78,17.78) B3(-15.24,17.78) B4(-12.7,17.78) B5(-10.16,17.78) B6(-7.62,17.78) B7(-5.08,17.78) B8(-2.54,17.78) B9(0,17.78) B10(2.54,17.78) B11(5.08,17.78) B12(7.62,17.78) B13(10.16,17.78) B14(12.7,17.78) B15(15.24,17.78) B16(17.78,17.78) B17(20.32,17.78) C1(-20.32,15.24) C2(-17.78,15.24) C3(-15.24,15.24) C4(-12.7,15.24) C5(-10.16,15.24) C6(-7.62,15.24) C7(-5.08,15.24) C8(-2.54,15.24) C9(0,15.24) C10(2.54,15.24) C11(5.08,15.24) C12(7.62,15.24) C13(10.16,15.24) C14(12.7,15.24) C15(15.24,15.24) C16(17.78,15.24) C17(20.32,15.24) D1(-20.32,12.7) D2(-17.78,12.7) D3(-15.24,12.7) D15(15.24,12.7) D16(17.78,12.7) D17(20.32,12.7) E1(-20.32,10.16) E2(-17.78,10.16) E3(-15.24,10.16) E15(15.24,10.16) E16(17.78,10.16) E17(20.32,10.16) F1(-20.32,7.62) F2(-17.78,7.62) F3(-15.24,7.62) F15(15.24,7.62) F16(17.78,7.62) F17(20.32,7.62) G1(-20.32,5.08) G2(-17.78,5.08) G3(-15.24,5.08) G15(15.24,5.08) G16(17.78,5.08) G17(20.32,5.08) H1(-20.32,2.54) H2(-17.78,2.54) H3(-15.24,2.54) H15(15.24,2.54) H16(17.78,2.54) H17(20.32,2.54) J1(-20.32,0) J2(-17.78,0) J3(-15.24,0) J15(15.24,0) J16(17.78,0) J17(20.32,0) K1(-20.32,-2.54) K2(-17.78,-2.54) K3(-15.24,-2.54) K15(15.24,-2.54) K16(17.78,-2.54) K17(20.32,-2.54) L1(-20.32,-5.08) L2(-17.78,-5.08) L3(-15.24,-5.08) L15(15.24,-5.08) L16(17.78,-5.08) L17(20.32,-5.08) M1(-20.32,-7.62) M2(-17.78,-7.62) M3(-15.24,-7.62) M15(15.24,-7.62) M16(17.78,-7.62) M17(20.32,-7.62) N1(-20.32,-10.16) N2(-17.78,-10.16) N3(-15.24,-10.16) N15(15.24,-10.16) N16(17.78,-10.16) N17(20.32,-10.16) P1(-20.32,-12.7) P2(-17.78,-12.7) P3(-15.24,-12.7) P15(15.24,-12.7) P16(17.78,-12.7) P17(20.32,-12.7) Q1(-20.32,-15.24) Q2(-17.78,-15.24) Q3(-15.24,-15.24) Q4(-12.7,-15.24) Q5(-10.16,-15.24) Q6(-7.62,-15.24) Q7(-5.08,-15.24) Q8(-2.54,-15.24) Q9(0,-15.24) Q10(2.54,-15.24) Q11(5.08,-15.24) Q12(7.62,-15.24) Q13(10.16,-15.24) Q14(12.7,-15.24) Q15(15.24,-15.24) Q16(17.78,-15.24) Q17(20.32,-15.24) R1(-20.32,-17.78) R2(-17.78,-17.78) R3(-15.24,-17.78) R4(-12.7,-17.78) R5(-10.16,-17.78) R6(-7.62,-17.78) R7(-5.08,-17.78) R8(-2.54,-17.78) R9(0,-17.78) R10(2.54,-17.78) R11(5.08,-17.78) R12(7.62,-17.78) R13(10.16,-17.78) R14(12.7,-17.78) R15(15.24,-17.78) R16(17.78,-17.78) R17(20.32,-17.78) S1(-20.32,-20.32) S2(-17.78,-20.32) S3(-15.24,-20.32) S4(-12.7,-20.32) S5(-10.16,-20.32) S6(-7.62,-20.32) S7(-5.08,-20.32) S8(-2.54,-20.32) S9(0,-20.32) S10(2.54,-20.32) S11(5.08,-20.32) S12(7.62,-20.32) S13(10.16,-20.32) S14(12.7,-20.32) S15(15.24,-20.32) S16(17.78,-20.32) S17(20.32,-20.32)
Top Overlay:
  circle w0.25: c-23.1,20.32 r0.125
  lines w0.2: -22.45,-22.45 -22.45,21.45 -21.45,22.45 22.45,22.45 22.45,-22.45 -22.45,-22.45

## PGA44x44-P224 [mm] "PGA; 224 Leads; Body 44 x 44 mm; Plain Grid"
height 4.5
pads (224):
  rect 1.4x1.4 hole 0.8: A1(-20.32,20.32)
  round 1.4 hole 0.8: A2(-17.78,20.32) A3(-15.24,20.32) A4(-12.7,20.32) A5(-10.16,20.32) A6(-7.62,20.32) A7(-5.08,20.32) A8(-2.54,20.32) A9(0,20.32) A10(2.54,20.32) A11(5.08,20.32) A12(7.62,20.32) A13(10.16,20.32) A14(12.7,20.32) A15(15.24,20.32) A16(17.78,20.32) A17(20.32,20.32) B1(-20.32,17.78) B2(-17.78,17.78) B3(-15.24,17.78) B4(-12.7,17.78) B5(-10.16,17.78) B6(-7.62,17.78) B7(-5.08,17.78) B8(-2.54,17.78) B9(0,17.78) B10(2.54,17.78) B11(5.08,17.78) B12(7.62,17.78) B13(10.16,17.78) B14(12.7,17.78) B15(15.24,17.78) B16(17.78,17.78) B17(20.32,17.78) C1(-20.32,15.24) C2(-17.78,15.24) C3(-15.24,15.24) C4(-12.7,15.24) C5(-10.16,15.24) C6(-7.62,15.24) C7(-5.08,15.24) C8(-2.54,15.24) C9(0,15.24) C10(2.54,15.24) C11(5.08,15.24) C12(7.62,15.24) C13(10.16,15.24) C14(12.7,15.24) C15(15.24,15.24) C16(17.78,15.24) C17(20.32,15.24) D1(-20.32,12.7) D2(-17.78,12.7) D3(-15.24,12.7) D4(-12.7,12.7) D5(-10.16,12.7) D6(-7.62,12.7) D7(-5.08,12.7) D8(-2.54,12.7) D9(0,12.7) D10(2.54,12.7) D11(5.08,12.7) D12(7.62,12.7) D13(10.16,12.7) D14(12.7,12.7) D15(15.24,12.7) D16(17.78,12.7) D17(20.32,12.7) E1(-20.32,10.16) E2(-17.78,10.16) E3(-15.24,10.16) E4(-12.7,10.16) E7(-5.08,10.16) E8(-2.54,10.16) E9(0,10.16) E10(2.54,10.16) E11(5.08,10.16) E14(12.7,10.16) E15(15.24,10.16) E16(17.78,10.16) E17(20.32,10.16) F1(-20.32,7.62) F2(-17.78,7.62) F3(-15.24,7.62) F4(-12.7,7.62) F14(12.7,7.62) F15(15.24,7.62) F16(17.78,7.62) F17(20.32,7.62) G1(-20.32,5.08) G2(-17.78,5.08) G3(-15.24,5.08) G4(-12.7,5.08) G14(12.7,5.08) G15(15.24,5.08) G16(17.78,5.08) G17(20.32,5.08) H1(-20.32,2.54) H2(-17.78,2.54) H3(-15.24,2.54) H4(-12.7,2.54) H5(-10.16,2.54) H13(10.16,2.54) H14(12.7,2.54) H15(15.24,2.54) H16(17.78,2.54) H17(20.32,2.54) J1(-20.32,0) J2(-17.78,0) J3(-15.24,0) J4(-12.7,0) J5(-10.16,0) J13(10.16,0) J14(12.7,0) J15(15.24,0) J16(17.78,0) J17(20.32,0) K1(-20.32,-2.54) K2(-17.78,-2.54) K3(-15.24,-2.54) K4(-12.7,-2.54) K5(-10.16,-2.54) K13(10.16,-2.54) K14(12.7,-2.54) K15(15.24,-2.54) K16(17.78,-2.54) K17(20.32,-2.54) L1(-20.32,-5.08) L2(-17.78,-5.08) L3(-15.24,-5.08) L4(-12.7,-5.08) L14(12.7,-5.08) L15(15.24,-5.08) L16(17.78,-5.08) L17(20.32,-5.08) M1(-20.32,-7.62) M2(-17.78,-7.62) M3(-15.24,-7.62) M4(-12.7,-7.62) M14(12.7,-7.62) M15(15.24,-7.62) M16(17.78,-7.62) M17(20.32,-7.62) N1(-20.32,-10.16) N2(-17.78,-10.16) N3(-15.24,-10.16) N4(-12.7,-10.16) N7(-5.08,-10.16) N8(-2.54,-10.16) N9(0,-10.16) N10(2.54,-10.16) N11(5.08,-10.16) N14(12.7,-10.16) N15(15.24,-10.16) N16(17.78,-10.16) N17(20.32,-10.16) P1(-20.32,-12.7) P2(-17.78,-12.7) P3(-15.24,-12.7) P4(-12.7,-12.7) P5(-10.16,-12.7) P6(-7.62,-12.7) P7(-5.08,-12.7) P8(-2.54,-12.7) P9(0,-12.7) P10(2.54,-12.7) P11(5.08,-12.7) P12(7.62,-12.7) P13(10.16,-12.7) P14(12.7,-12.7) P15(15.24,-12.7) P16(17.78,-12.7) P17(20.32,-12.7) R1(-20.32,-15.24) R2(-17.78,-15.24) R3(-15.24,-15.24) R4(-12.7,-15.24) R5(-10.16,-15.24) R6(-7.62,-15.24) R7(-5.08,-15.24) R8(-2.54,-15.24) R9(0,-15.24) R10(2.54,-15.24) R11(5.08,-15.24) R12(7.62,-15.24) R13(10.16,-15.24) R14(12.7,-15.24) R15(15.24,-15.24) R16(17.78,-15.24) R17(20.32,-15.24) T1(-20.32,-17.78) T2(-17.78,-17.78) T3(-15.24,-17.78) T4(-12.7,-17.78) T5(-10.16,-17.78) T6(-7.62,-17.78) T7(-5.08,-17.78) T8(-2.54,-17.78) T9(0,-17.78) T10(2.54,-17.78) T11(5.08,-17.78) T12(7.62,-17.78) T13(10.16,-17.78) T14(12.7,-17.78) T15(15.24,-17.78) T16(17.78,-17.78) T17(20.32,-17.78) U1(-20.32,-20.32) U2(-17.78,-20.32) U3(-15.24,-20.32) U4(-12.7,-20.32) U5(-10.16,-20.32) U6(-7.62,-20.32) U7(-5.08,-20.32) U8(-2.54,-20.32) U9(0,-20.32) U10(2.54,-20.32) U11(5.08,-20.32) U12(7.62,-20.32) U13(10.16,-20.32) U14(12.7,-20.32) U15(15.24,-20.32) U16(17.78,-20.32) U17(20.32,-20.32)
Top Overlay:
  circle w0.25: c-23.51,20.32 r0.125
  lines w0.2: -22.86,-22.86 -22.86,21.59 -21.59,22.86 22.86,22.86 22.86,-22.86 -22.86,-22.86

## PGA45x45-P192 [mm] "192-Pin Ceramic Pin-Grid Array (PGA)"
height 5.39
pads (192):
  rect 1.5x1.5 hole 0.9: A1(-20.32,20.32)
  round 1.5 hole 0.9: A2(-17.78,20.32) A3(-15.24,20.32) A4(-12.7,20.32) A5(-10.16,20.32) A6(-7.62,20.32) A7(-5.08,20.32) A8(-2.54,20.32) A9(0,20.32) A10(2.54,20.32) A11(5.08,20.32) A12(7.62,20.32) A13(10.16,20.32) A14(12.7,20.32) A15(15.24,20.32) A16(17.78,20.32) A17(20.32,20.32) B1(-20.32,17.78) B2(-17.78,17.78) B3(-15.24,17.78) B4(-12.7,17.78) B5(-10.16,17.78) B6(-7.62,17.78) B7(-5.08,17.78) B8(-2.54,17.78) B9(0,17.78) B10(2.54,17.78) B11(5.08,17.78) B12(7.62,17.78) B13(10.16,17.78) B14(12.7,17.78) B15(15.24,17.78) B16(17.78,17.78) B17(20.32,17.78) C1(-20.32,15.24) C2(-17.78,15.24) C3(-15.24,15.24) C4(-12.7,15.24) C5(-10.16,15.24) C6(-7.62,15.24) C7(-5.08,15.24) C8(-2.54,15.24) C9(0,15.24) C10(2.54,15.24) C11(5.08,15.24) C12(7.62,15.24) C13(10.16,15.24) C14(12.7,15.24) C15(15.24,15.24) C16(17.78,15.24) C17(20.32,15.24) D1(-20.32,12.7) D2(-17.78,12.7) D3(-15.24,12.7) D4(-12.7,12.7) D7(-5.08,12.7) D8(-2.54,12.7) D9(0,12.7) D10(2.54,12.7) D11(5.08,12.7) D14(12.7,12.7) D15(15.24,12.7) D16(17.78,12.7) D17(20.32,12.7) E1(-20.32,10.16) E2(-17.78,10.16) E3(-15.24,10.16) E15(15.24,10.16) E16(17.78,10.16) E17(20.32,10.16) F1(-20.32,7.62) F2(-17.78,7.62) F3(-15.24,7.62) F15(15.24,7.62) F16(17.78,7.62) F17(20.32,7.62) G1(-20.32,5.08) G2(-17.78,5.08) G3(-15.24,5.08) G4(-12.7,5.08) G14(12.7,5.08) G15(15.24,5.08) G16(17.78,5.08) G17(20.32,5.08) H1(-20.32,2.54) H2(-17.78,2.54) H3(-15.24,2.54) H4(-12.7,2.54) H14(12.7,2.54) H15(15.24,2.54) H16(17.78,2.54) H17(20.32,2.54) J1(-20.32,0) J2(-17.78,0) J3(-15.24,0) J4(-12.7,0) J14(12.7,0) J15(15.24,0) J16(17.78,0) J17(20.32,0) K1(-20.32,-2.54) K2(-17.78,-2.54) K3(-15.24,-2.54) K4(-12.7,-2.54) K14(12.7,-2.54) K15(15.24,-2.54) K16(17.78,-2.54) K17(20.32,-2.54) L1(-20.32,-5.08) L2(-17.78,-5.08) L3(-15.24,-5.08) L4(-12.7,-5.08) L14(12.7,-5.08) L15(15.24,-5.08) L16(17.78,-5.08) L17(20.32,-5.08) M1(-20.32,-7.62) M2(-17.78,-7.62) M3(-15.24,-7.62) M15(15.24,-7.62) M16(17.78,-7.62) M17(20.32,-7.62) N1(-20.32,-10.16) N2(-17.78,-10.16) N3(-15.24,-10.16) N15(15.24,-10.16) N16(17.78,-10.16) N17(20.32,-10.16) P1(-20.32,-12.7) P2(-17.78,-12.7) P3(-15.24,-12.7) P4(-12.7,-12.7) P7(-5.08,-12.7) P8(-2.54,-12.7) P9(0,-12.7) P10(2.54,-12.7) P11(5.08,-12.7) P14(12.7,-12.7) P15(15.24,-12.7) P16(17.78,-12.7) P17(20.32,-12.7) R1(-20.32,-15.24) R2(-17.78,-15.24) R3(-15.24,-15.24) R4(-12.7,-15.24) R5(-10.16,-15.24) R6(-7.62,-15.24) R7(-5.08,-15.24) R8(-2.54,-15.24) R9(0,-15.24) R10(2.54,-15.24) R11(5.08,-15.24) R12(7.62,-15.24) R13(10.16,-15.24) R14(12.7,-15.24) R15(15.24,-15.24) R16(17.78,-15.24) R17(20.32,-15.24) T1(-20.32,-17.78) T2(-17.78,-17.78) T3(-15.24,-17.78) T4(-12.7,-17.78) T5(-10.16,-17.78) T6(-7.62,-17.78) T7(-5.08,-17.78) T8(-2.54,-17.78) T9(0,-17.78) T10(2.54,-17.78) T11(5.08,-17.78) T12(7.62,-17.78) T13(10.16,-17.78) T14(12.7,-17.78) T15(15.24,-17.78) T16(17.78,-17.78) T17(20.32,-17.78) U1(-20.32,-20.32) U2(-17.78,-20.32) U3(-15.24,-20.32) U4(-12.7,-20.32) U5(-10.16,-20.32) U6(-7.62,-20.32) U7(-5.08,-20.32) U8(-2.54,-20.32) U9(0,-20.32) U10(2.54,-20.32) U11(5.08,-20.32) U12(7.62,-20.32) U13(10.16,-20.32) U14(12.7,-20.32) U15(15.24,-20.32) U16(17.78,-20.32) U17(20.32,-20.32)
Top Overlay:
  circle w0.25: c-23.25,20.32 r0.125
  lines w0.2: -22.6,-22.6 -22.6,21.6 -21.6,22.6 22.6,22.6 22.6,-22.6 -22.6,-22.6

## PGA45x45-P208 [mm] "207-Pin Ceramic Pin Grid Array (CPGA)"
height 4.53
pads (208):
  rect 1.5x1.5 hole 0.9: A1(-20.32,20.32)
  round 1.5 hole 0.9: A2(-17.78,20.32) A3(-15.24,20.32) A4(-12.7,20.32) A5(-10.16,20.32) A6(-7.62,20.32) A7(-5.08,20.32) A8(-2.54,20.32) A9(0,20.32) A10(2.54,20.32) A11(5.08,20.32) A12(7.62,20.32) A13(10.16,20.32) A14(12.7,20.32) A15(15.24,20.32) A16(17.78,20.32) A17(20.32,20.32) B1(-20.32,17.78) B2(-17.78,17.78) B3(-15.24,17.78) B4(-12.7,17.78) B5(-10.16,17.78) B6(-7.62,17.78) B7(-5.08,17.78) B8(-2.54,17.78) B9(0,17.78) B10(2.54,17.78) B11(5.08,17.78) B12(7.62,17.78) B13(10.16,17.78) B14(12.7,17.78) B15(15.24,17.78) B16(17.78,17.78) B17(20.32,17.78) C1(-20.32,15.24) C2(-17.78,15.24) C3(-15.24,15.24) C4(-12.7,15.24) C5(-10.16,15.24) C6(-7.62,15.24) C7(-5.08,15.24) C8(-2.54,15.24) C9(0,15.24) C10(2.54,15.24) C11(5.08,15.24) C12(7.62,15.24) C13(10.16,15.24) C14(12.7,15.24) C15(15.24,15.24) C16(17.78,15.24) C17(20.32,15.24) D1(-20.32,12.7) D2(-17.78,12.7) D3(-15.24,12.7) D4(-12.7,12.7) D5(-10.16,12.7) D6(-7.62,12.7) D7(-5.08,12.7) D8(-2.54,12.7) D9(0,12.7) D10(2.54,12.7) D11(5.08,12.7) D12(7.62,12.7) D13(10.16,12.7) D14(12.7,12.7) D15(15.24,12.7) D16(17.78,12.7) D17(20.32,12.7) E1(-20.32,10.16) E2(-17.78,10.16) E3(-15.24,10.16) E4(-12.7,10.16) E14(12.7,10.16) E15(15.24,10.16) E16(17.78,10.16) E17(20.32,10.16) F1(-20.32,7.62) F2(-17.78,7.62) F3(-15.24,7.62) F4(-12.7,7.62) F14(12.7,7.62) F15(15.24,7.62) F16(17.78,7.62) F17(20.32,7.62) G1(-20.32,5.08) G2(-17.78,5.08) G3(-15.24,5.08) G4(-12.7,5.08) G14(12.7,5.08) G15(15.24,5.08) G16(17.78,5.08) G17(20.32,5.08) H1(-20.32,2.54) H2(-17.78,2.54) H3(-15.24,2.54) H4(-12.7,2.54) H14(12.7,2.54) H15(15.24,2.54) H16(17.78,2.54) H17(20.32,2.54) J1(-20.32,0) J2(-17.78,0) J3(-15.24,0) J4(-12.7,0) J14(12.7,0) J15(15.24,0) J16(17.78,0) J17(20.32,0) K1(-20.32,-2.54) K2(-17.78,-2.54) K3(-15.24,-2.54) K4(-12.7,-2.54) K14(12.7,-2.54) K15(15.24,-2.54) K16(17.78,-2.54) K17(20.32,-2.54) L1(-20.32,-5.08) L2(-17.78,-5.08) L3(-15.24,-5.08) L4(-12.7,-5.08) L14(12.7,-5.08) L15(15.24,-5.08) L16(17.78,-5.08) L17(20.32,-5.08) M1(-20.32,-7.62) M2(-17.78,-7.62) M3(-15.24,-7.62) M4(-12.7,-7.62) M14(12.7,-7.62) M15(15.24,-7.62) M16(17.78,-7.62) M17(20.32,-7.62) N1(-20.32,-10.16) N2(-17.78,-10.16) N3(-15.24,-10.16) N4(-12.7,-10.16) N14(12.7,-10.16) N15(15.24,-10.16) N16(17.78,-10.16) N17(20.32,-10.16) P1(-20.32,-12.7) P2(-17.78,-12.7) P3(-15.24,-12.7) P4(-12.7,-12.7) P5(-10.16,-12.7) P6(-7.62,-12.7) P7(-5.08,-12.7) P8(-2.54,-12.7) P9(0,-12.7) P10(2.54,-12.7) P11(5.08,-12.7) P12(7.62,-12.7) P13(10.16,-12.7) P14(12.7,-12.7) P15(15.24,-12.7) P16(17.78,-12.7) P17(20.32,-12.7) R1(-20.32,-15.24) R2(-17.78,-15.24) R3(-15.24,-15.24) R4(-12.7,-15.24) R5(-10.16,-15.24) R6(-7.62,-15.24) R7(-5.08,-15.24) R8(-2.54,-15.24) R9(0,-15.24) R10(2.54,-15.24) R11(5.08,-15.24) R12(7.62,-15.24) R13(10.16,-15.24) R14(12.7,-15.24) R15(15.24,-15.24) R16(17.78,-15.24) R17(20.32,-15.24) S1(-20.32,-17.78) S2(-17.78,-17.78) S3(-15.24,-17.78) S4(-12.7,-17.78) S5(-10.16,-17.78) S6(-7.62,-17.78) S7(-5.08,-17.78) S8(-2.54,-17.78) S9(0,-17.78) S10(2.54,-17.78) S11(5.08,-17.78) S12(7.62,-17.78) S13(10.16,-17.78) S14(12.7,-17.78) S15(15.24,-17.78) S16(17.78,-17.78) S17(20.32,-17.78) T1(-20.32,-20.32) T2(-17.78,-20.32) T3(-15.24,-20.32) T4(-12.7,-20.32) T5(-10.16,-20.32) T6(-7.62,-20.32) T7(-5.08,-20.32) T8(-2.54,-20.32) T9(0,-20.32) T10(2.54,-20.32) T11(5.08,-20.32) T12(7.62,-20.32) T13(10.16,-20.32) T14(12.7,-20.32) T15(15.24,-20.32) T16(17.78,-20.32) T17(20.32,-20.32)
Top Overlay:
  circle w0.25: c-23.35,20.32 r0.125
  lines w0.2: -22.7,-22.7 22.7,-22.7 22.7,22.7 -21.7,22.7 -22.7,21.7 -22.7,-22.7

## PGA45x45-P232 [mm] "232-Pin Ceramic Pin-Grid Array (PGA)"
height 5.21
pads (232):
  rect 1.5x1.5 hole 0.9: A1(-20.32,20.32)
  round 1.5 hole 0.9: A2(-17.78,20.32) A3(-15.24,20.32) A4(-12.7,20.32) A5(-10.16,20.32) A6(-7.62,20.32) A7(-5.08,20.32) A8(-2.54,20.32) A9(0,20.32) A10(2.54,20.32) A11(5.08,20.32) A12(7.62,20.32) A13(10.16,20.32) A14(12.7,20.32) A15(15.24,20.32) A16(17.78,20.32) A17(20.32,20.32) B1(-20.32,17.78) B2(-17.78,17.78) B3(-15.24,17.78) B4(-12.7,17.78) B5(-10.16,17.78) B6(-7.62,17.78) B7(-5.08,17.78) B8(-2.54,17.78) B9(0,17.78) B10(2.54,17.78) B11(5.08,17.78) B12(7.62,17.78) B13(10.16,17.78) B14(12.7,17.78) B15(15.24,17.78) B16(17.78,17.78) B17(20.32,17.78) C1(-20.32,15.24) C2(-17.78,15.24) C3(-15.24,15.24) C4(-12.7,15.24) C5(-10.16,15.24) C6(-7.62,15.24) C7(-5.08,15.24) C8(-2.54,15.24) C9(0,15.24) C10(2.54,15.24) C11(5.08,15.24) C12(7.62,15.24) C13(10.16,15.24) C14(12.7,15.24) C15(15.24,15.24) C16(17.78,15.24) C17(20.32,15.24) D1(-20.32,12.7) D2(-17.78,12.7) D3(-15.24,12.7) D4(-12.7,12.7) D5(-10.16,12.7) D6(-7.62,12.7) D7(-5.08,12.7) D8(-2.54,12.7) D9(0,12.7) D10(2.54,12.7) D11(5.08,12.7) D12(7.62,12.7) D13(10.16,12.7) D14(12.7,12.7) D15(15.24,12.7) D16(17.78,12.7) D17(20.32,12.7) E1(-20.32,10.16) E2(-17.78,10.16) E3(-15.24,10.16) E4(-12.7,10.16) E7(-5.08,10.16) E8(-2.54,10.16) E9(0,10.16) E10(2.54,10.16) E11(5.08,10.16) E14(12.7,10.16) E15(15.24,10.16) E16(17.78,10.16) E17(20.32,10.16) F1(-20.32,7.62) F2(-17.78,7.62) F3(-15.24,7.62) F4(-12.7,7.62) F5(-10.16,7.62) F13(10.16,7.62) F14(12.7,7.62) F15(15.24,7.62) F16(17.78,7.62) F17(20.32,7.62) G1(-20.32,5.08) G2(-17.78,5.08) G3(-15.24,5.08) G4(-12.7,5.08) G5(-10.16,5.08) G13(10.16,5.08) G14(12.7,5.08) G15(15.24,5.08) G16(17.78,5.08) G17(20.32,5.08) H1(-20.32,2.54) H2(-17.78,2.54) H3(-15.24,2.54) H4(-12.7,2.54) H5(-10.16,2.54) H13(10.16,2.54) H14(12.7,2.54) H15(15.24,2.54) H16(17.78,2.54) H17(20.32,2.54) J1(-20.32,0) J2(-17.78,0) J3(-15.24,0) J4(-12.7,0) J5(-10.16,0) J13(10.16,0) J14(12.7,0) J15(15.24,0) J16(17.78,0) J17(20.32,0) K1(-20.32,-2.54) K2(-17.78,-2.54) K3(-15.24,-2.54) K4(-12.7,-2.54) K5(-10.16,-2.54) K13(10.16,-2.54) K14(12.7,-2.54) K15(15.24,-2.54) K16(17.78,-2.54) K17(20.32,-2.54) L1(-20.32,-5.08) L2(-17.78,-5.08) L3(-15.24,-5.08) L4(-12.7,-5.08) L5(-10.16,-5.08) L13(10.16,-5.08) L14(12.7,-5.08) L15(15.24,-5.08) L16(17.78,-5.08) L17(20.32,-5.08) M1(-20.32,-7.62) M2(-17.78,-7.62) M3(-15.24,-7.62) M4(-12.7,-7.62) M5(-10.16,-7.62) M13(10.16,-7.62) M14(12.7,-7.62) M15(15.24,-7.62) M16(17.78,-7.62) M17(20.32,-7.62) N1(-20.32,-10.16) N2(-17.78,-10.16) N3(-15.24,-10.16) N4(-12.7,-10.16) N7(-5.08,-10.16) N8(-2.54,-10.16) N9(0,-10.16) N10(2.54,-10.16) N11(5.08,-10.16) N14(12.7,-10.16) N15(15.24,-10.16) N16(17.78,-10.16) N17(20.32,-10.16) P1(-20.32,-12.7) P2(-17.78,-12.7) P3(-15.24,-12.7) P4(-12.7,-12.7) P5(-10.16,-12.7) P6(-7.62,-12.7) P7(-5.08,-12.7) P8(-2.54,-12.7) P9(0,-12.7) P10(2.54,-12.7) P11(5.08,-12.7) P12(7.62,-12.7) P13(10.16,-12.7) P14(12.7,-12.7) P15(15.24,-12.7) P16(17.78,-12.7) P17(20.32,-12.7) R1(-20.32,-15.24) R2(-17.78,-15.24) R3(-15.24,-15.24) R4(-12.7,-15.24) R5(-10.16,-15.24) R6(-7.62,-15.24) R7(-5.08,-15.24) R8(-2.54,-15.24) R9(0,-15.24) R10(2.54,-15.24) R11(5.08,-15.24) R12(7.62,-15.24) R13(10.16,-15.24) R14(12.7,-15.24) R15(15.24,-15.24) R16(17.78,-15.24) R17(20.32,-15.24) T1(-20.32,-17.78) T2(-17.78,-17.78) T3(-15.24,-17.78) T4(-12.7,-17.78) T5(-10.16,-17.78) T6(-7.62,-17.78) T7(-5.08,-17.78) T8(-2.54,-17.78) T9(0,-17.78) T10(2.54,-17.78) T11(5.08,-17.78) T12(7.62,-17.78) T13(10.16,-17.78) T14(12.7,-17.78) T15(15.24,-17.78) T16(17.78,-17.78) T17(20.32,-17.78) U1(-20.32,-20.32) U2(-17.78,-20.32) U3(-15.24,-20.32) U4(-12.7,-20.32) U5(-10.16,-20.32) U6(-7.62,-20.32) U7(-5.08,-20.32) U8(-2.54,-20.32) U9(0,-20.32) U10(2.54,-20.32) U11(5.08,-20.32) U12(7.62,-20.32) U13(10.16,-20.32) U14(12.7,-20.32) U15(15.24,-20.32) U16(17.78,-20.32) U17(20.32,-20.32)
Top Overlay:
  circle w0.25: c-23.25,20.32 r0.125
  lines w0.2: -22.6,-22.6 22.6,-22.6 22.6,22.6 -21.6,22.6 -22.6,21.6 -22.6,-22.6

## PGA47x47-P191 [mm] "191-Pin Ceramic Pin Grid Array (PG191)"
height 5.21
pads (191):
  round 1.5 hole 0.9: A2(-19.05,21.59) A3(-16.51,21.59) A4(-13.97,21.59) A5(-11.43,21.59) A6(-8.89,21.59) A7(-6.35,21.59) A8(-3.81,21.59) A9(-1.27,21.59) A10(1.27,21.59) A11(3.81,21.59) A12(6.35,21.59) A13(8.89,21.59) A14(11.43,21.59) A15(13.97,21.59) A16(16.51,21.59) A17(19.05,21.59) A18(21.59,21.59) B1(-21.59,19.05) B2(-19.05,19.05) B3(-16.51,19.05) B4(-13.97,19.05) B5(-11.43,19.05) B6(-8.89,19.05) B7(-6.35,19.05) B8(-3.81,19.05) B9(-1.27,19.05) B10(1.27,19.05) B11(3.81,19.05) B12(6.35,19.05) B13(8.89,19.05) B14(11.43,19.05) B15(13.97,19.05) B16(16.51,19.05) B17(19.05,19.05) B18(21.59,19.05) C1(-21.59,16.51) C2(-19.05,16.51) C3(-16.51,16.51) C4(-13.97,16.51) C5(-11.43,16.51) C6(-8.89,16.51) C7(-6.35,16.51) C8(-3.81,16.51) C9(-1.27,16.51) C10(1.27,16.51) C11(3.81,16.51) C12(6.35,16.51) C13(8.89,16.51) C14(11.43,16.51) C15(13.97,16.51) C16(16.51,16.51) C17(19.05,16.51) C18(21.59,16.51) D1(-21.59,13.97) D2(-19.05,13.97) D3(-16.51,13.97) D4(-13.97,13.97) D9(-1.27,13.97) D10(1.27,13.97) D15(13.97,13.97) D16(16.51,13.97) D17(19.05,13.97) D18(21.59,13.97) E1(-21.59,11.43) E2(-19.05,11.43) E3(-16.51,11.43) E16(16.51,11.43) E17(19.05,11.43) E18(21.59,11.43) F1(-21.59,8.89) F2(-19.05,8.89) F3(-16.51,8.89) F16(16.51,8.89) F17(19.05,8.89) F18(21.59,8.89) G1(-21.59,6.35) G2(-19.05,6.35) G3(-16.51,6.35) G16(16.51,6.35) G17(19.05,6.35) G18(21.59,6.35) H1(-21.59,3.81) H2(-19.05,3.81) H3(-16.51,3.81) H16(16.51,3.81) H17(19.05,3.81) H18(21.59,3.81) J1(-21.59,1.27) J2(-19.05,1.27) J3(-16.51,1.27) J4(-13.97,1.27) J15(13.97,1.27) J16(16.51,1.27) J17(19.05,1.27) J18(21.59,1.27) K1(-21.59,-1.27) K2(-19.05,-1.27) K3(-16.51,-1.27) K4(-13.97,-1.27) K15(13.97,-1.27) K16(16.51,-1.27) K17(19.05,-1.27) K18(21.59,-1.27) L1(-21.59,-3.81) L2(-19.05,-3.81) L3(-16.51,-3.81) L16(16.51,-3.81) L17(19.05,-3.81) L18(21.59,-3.81) M1(-21.59,-6.35) M2(-19.05,-6.35) M3(-16.51,-6.35) M16(16.51,-6.35) M17(19.05,-6.35) M18(21.59,-6.35) N1(-21.59,-8.89) N2(-19.05,-8.89) N3(-16.51,-8.89) N16(16.51,-8.89) N17(19.05,-8.89) N18(21.59,-8.89) P1(-21.59,-11.43) P2(-19.05,-11.43) P3(-16.51,-11.43) P16(16.51,-11.43) P17(19.05,-11.43) P18(21.59,-11.43) R1(-21.59,-13.97) R2(-19.05,-13.97) R3(-16.51,-13.97) R4(-13.97,-13.97) R9(-1.27,-13.97) R10(1.27,-13.97) R15(13.97,-13.97) R16(16.51,-13.97) R17(19.05,-13.97) R18(21.59,-13.97) T1(-21.59,-16.51) T2(-19.05,-16.51) T3(-16.51,-16.51) T4(-13.97,-16.51) T5(-11.43,-16.51) T6(-8.89,-16.51) T7(-6.35,-16.51) T8(-3.81,-16.51) T9(-1.27,-16.51) T10(1.27,-16.51) T11(3.81,-16.51) T12(6.35,-16.51) T13(8.89,-16.51) T14(11.43,-16.51) T15(13.97,-16.51) T16(16.51,-16.51) T17(19.05,-16.51) T18(21.59,-16.51) U1(-21.59,-19.05) U2(-19.05,-19.05) U3(-16.51,-19.05) U4(-13.97,-19.05) U5(-11.43,-19.05) U6(-8.89,-19.05) U7(-6.35,-19.05) U8(-3.81,-19.05) U9(-1.27,-19.05) U10(1.27,-19.05) U11(3.81,-19.05) U12(6.35,-19.05) U13(8.89,-19.05) U14(11.43,-19.05) U15(13.97,-19.05) U16(16.51,-19.05) U17(19.05,-19.05) U18(21.59,-19.05) V1(-21.59,-21.59) V2(-19.05,-21.59) V3(-16.51,-21.59) V4(-13.97,-21.59) V5(-11.43,-21.59) V6(-8.89,-21.59) V7(-6.35,-21.59) V8(-3.81,-21.59) V9(-1.27,-21.59) V10(1.27,-21.59) V11(3.81,-21.59) V12(6.35,-21.59) V13(8.89,-21.59) V14(11.43,-21.59) V15(13.97,-21.59) V16(16.51,-21.59) V17(19.05,-21.59) V18(21.59,-21.59)
Top Overlay:
  circle w0.25: c-24.55,21.59 r0.125
  lines w0.2: -23.9,-23.9 -23.9,22.9 -22.9,23.9 23.9,23.9 23.9,-23.9 -23.9,-23.9

## PGA47x47-P223 [mm] "223-Pin Ceramic Pin Grid Array (PG223)"
height 5.21
pads (223):
  round 1.5 hole 0.9: A2(-19.05,21.59) A3(-16.51,21.59) A4(-13.97,21.59) A5(-11.43,21.59) A6(-8.89,21.59) A7(-6.35,21.59) A8(-3.81,21.59) A9(-1.27,21.59) A10(1.27,21.59) A11(3.81,21.59) A12(6.35,21.59) A13(8.89,21.59) A14(11.43,21.59) A15(13.97,21.59) A16(16.51,21.59) A17(19.05,21.59) A18(21.59,21.59) B1(-21.59,19.05) B2(-19.05,19.05) B3(-16.51,19.05) B4(-13.97,19.05) B5(-11.43,19.05) B6(-8.89,19.05) B7(-6.35,19.05) B8(-3.81,19.05) B9(-1.27,19.05) B10(1.27,19.05) B11(3.81,19.05) B12(6.35,19.05) B13(8.89,19.05) B14(11.43,19.05) B15(13.97,19.05) B16(16.51,19.05) B17(19.05,19.05) B18(21.59,19.05) C1(-21.59,16.51) C2(-19.05,16.51) C3(-16.51,16.51) C4(-13.97,16.51) C5(-11.43,16.51) C6(-8.89,16.51) C7(-6.35,16.51) C8(-3.81,16.51) C9(-1.27,16.51) C10(1.27,16.51) C11(3.81,16.51) C12(6.35,16.51) C13(8.89,16.51) C14(11.43,16.51) C15(13.97,16.51) C16(16.51,16.51) C17(19.05,16.51) C18(21.59,16.51) D1(-21.59,13.97) D2(-19.05,13.97) D3(-16.51,13.97) D4(-13.97,13.97) D5(-11.43,13.97) D6(-8.89,13.97) D7(-6.35,13.97) D8(-3.81,13.97) D9(-1.27,13.97) D10(1.27,13.97) D11(3.81,13.97) D12(6.35,13.97) D13(8.89,13.97) D14(11.43,13.97) D15(13.97,13.97) D16(16.51,13.97) D17(19.05,13.97) D18(21.59,13.97) E1(-21.59,11.43) E2(-19.05,11.43) E3(-16.51,11.43) E4(-13.97,11.43) E15(13.97,11.43) E16(16.51,11.43) E17(19.05,11.43) E18(21.59,11.43) F1(-21.59,8.89) F2(-19.05,8.89) F3(-16.51,8.89) F4(-13.97,8.89) F15(13.97,8.89) F16(16.51,8.89) F17(19.05,8.89) F18(21.59,8.89) G1(-21.59,6.35) G2(-19.05,6.35) G3(-16.51,6.35) G4(-13.97,6.35) G15(13.97,6.35) G16(16.51,6.35) G17(19.05,6.35) G18(21.59,6.35) H1(-21.59,3.81) H2(-19.05,3.81) H3(-16.51,3.81) H4(-13.97,3.81) H15(13.97,3.81) H16(16.51,3.81) H17(19.05,3.81) H18(21.59,3.81) J1(-21.59,1.27) J2(-19.05,1.27) J3(-16.51,1.27) J4(-13.97,1.27) J15(13.97,1.27) J16(16.51,1.27) J17(19.05,1.27) J18(21.59,1.27) K1(-21.59,-1.27) K2(-19.05,-1.27) K3(-16.51,-1.27) K4(-13.97,-1.27) K15(13.97,-1.27) K16(16.51,-1.27) K17(19.05,-1.27) K18(21.59,-1.27) L1(-21.59,-3.81) L2(-19.05,-3.81) L3(-16.51,-3.81) L4(-13.97,-3.81) L15(13.97,-3.81) L16(16.51,-3.81) L17(19.05,-3.81) L18(21.59,-3.81) M1(-21.59,-6.35) M2(-19.05,-6.35) M3(-16.51,-6.35) M4(-13.97,-6.35) M15(13.97,-6.35) M16(16.51,-6.35) M17(19.05,-6.35) M18(21.59,-6.35) N1(-21.59,-8.89) N2(-19.05,-8.89) N3(-16.51,-8.89) N4(-13.97,-8.89) N15(13.97,-8.89) N16(16.51,-8.89) N17(19.05,-8.89) N18(21.59,-8.89) P1(-21.59,-11.43) P2(-19.05,-11.43) P3(-16.51,-11.43) P4(-13.97,-11.43) P15(13.97,-11.43) P16(16.51,-11.43) P17(19.05,-11.43) P18(21.59,-11.43) R1(-21.59,-13.97) R2(-19.05,-13.97) R3(-16.51,-13.97) R4(-13.97,-13.97) R5(-11.43,-13.97) R6(-8.89,-13.97) R7(-6.35,-13.97) R8(-3.81,-13.97) R9(-1.27,-13.97) R10(1.27,-13.97) R11(3.81,-13.97) R12(6.35,-13.97) R13(8.89,-13.97) R14(11.43,-13.97) R15(13.97,-13.97) R16(16.51,-13.97) R17(19.05,-13.97) R18(21.59,-13.97) T1(-21.59,-16.51) T2(-19.05,-16.51) T3(-16.51,-16.51) T4(-13.97,-16.51) T5(-11.43,-16.51) T6(-8.89,-16.51) T7(-6.35,-16.51) T8(-3.81,-16.51) T9(-1.27,-16.51) T10(1.27,-16.51) T11(3.81,-16.51) T12(6.35,-16.51) T13(8.89,-16.51) T14(11.43,-16.51) T15(13.97,-16.51) T16(16.51,-16.51) T17(19.05,-16.51) T18(21.59,-16.51) U1(-21.59,-19.05) U2(-19.05,-19.05) U3(-16.51,-19.05) U4(-13.97,-19.05) U5(-11.43,-19.05) U6(-8.89,-19.05) U7(-6.35,-19.05) U8(-3.81,-19.05) U9(-1.27,-19.05) U10(1.27,-19.05) U11(3.81,-19.05) U12(6.35,-19.05) U13(8.89,-19.05) U14(11.43,-19.05) U15(13.97,-19.05) U16(16.51,-19.05) U17(19.05,-19.05) U18(21.59,-19.05) V1(-21.59,-21.59) V2(-19.05,-21.59) V3(-16.51,-21.59) V4(-13.97,-21.59) V5(-11.43,-21.59) V6(-8.89,-21.59) V7(-6.35,-21.59) V8(-3.81,-21.59) V9(-1.27,-21.59) V10(1.27,-21.59) V11(3.81,-21.59) V12(6.35,-21.59) V13(8.89,-21.59) V14(11.43,-21.59) V15(13.97,-21.59) V16(16.51,-21.59) V17(19.05,-21.59) V18(21.59,-21.59)
Top Overlay:
  circle w0.25: c-24.55,21.59 r0.125
  lines w0.2: -23.9,-23.9 -23.9,22.9 -22.9,23.9 23.9,23.9 23.9,-23.9 -23.9,-23.9